# Altium schematic symbol library CONN_HDR_3X1.SchLib: 1 symbol
Pins are listed as number, name and electrical type; pins without a type are passive.

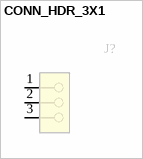
[diagram p0: symbol CONN_HDR_3X1]

## CONN_HDR_3X1
designator J?
HDR 1X3 TH 100MIL SP 330H AU 98L
pins: 1, 2, 3